# Altium integrated library LM358DRG3.IntLib: 1 symbol
Pins are listed as number, name and electrical type; pins without a type are passive.

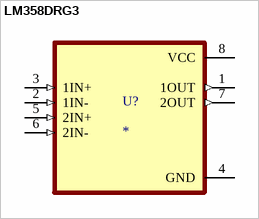
[diagram p0: symbol LM358DRG3]

## LM358DRG3
designator U?
Dual, 30-V, 700-kHz operational amplifier; MF: Texas Instruments; MP: LM358DRG3; SnapEDA_Link: https://www.snapeda.com/parts/LM358DRG3/Texas+Instruments/view-part/?ref=snap; Package: SOIC-8 Texas Instruments; Value: *; Check_prices: https://www.snapeda.com/parts/LM358DRG3/Texas+Instruments/view-part/?ref=eda
footprint SOIC127P599X175-8N
pins: 1 1OUT (out), 2 1IN- (in), 3 1IN+ (in), 4 GND (power), 5 2IN+ (in), 6 2IN- (in), 7 2OUT (out), 8 VCC (power)